# Altium footprint library LED SMD 0805.PcbLib: 2 footprints
Each footprint in its own frame and in the unit in brackets; x right, y up, seen from the top. Pads: shape width x height; smd on the part's side, far side on the other; paste and mask are expansions set on the pad; w line width, h text height; cw(c..) or ccw(c..) is an arc to the next point about the centre after c.
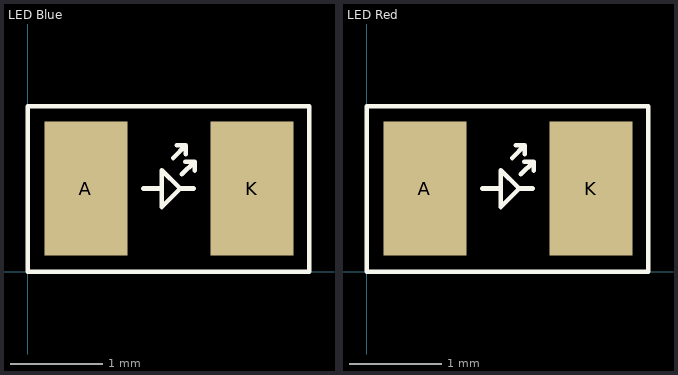
[diagram p0: the footprints below, top view; thin cyan lines are the x and y axes]

## LED Blue [mm] "Blue 470nm LED Indication - Discrete 3.3V 0805 (2012 Metric)"
pads (2):
  rect 0.9x1.45 smd: A(0.63,0.9) K(2.43,0.9)
Top Overlay:
  lines w0.05: 1.25,0.9 1.45,0.9 ; 1.576,1.231 1.713,1.368 ; 1.613,1.368 1.713,1.368 ; 1.67,1.055 1.807,1.192 ; 1.707,1.192 1.807,1.192 ; 1.713,1.272 1.713,1.368 ; 1.8,0.9 1.65,0.9 ; 1.807,1.096 1.807,1.192 ; 1.45,0.9 1.45,1.1 1.65,0.9 ; 1.45,0.9 1.45,0.7 1.65,0.9 ; 0,0 3.05,0 3.05,1.79 0,1.79 0,0
3D body "LED0805Blue.step": height 1.1, standoff 0, extent 0.441,0.271 2.461,1.521

## LED Red [mm] "Red 631nm LED Indication - Discrete 2V 0805 (2012 Metric)"
pads (2):
  rect 0.9x1.45 smd: A(0.63,0.9) K(2.43,0.9)
Top Overlay:
  lines w0.05: 1.25,0.9 1.45,0.9 ; 1.576,1.231 1.713,1.368 ; 1.613,1.368 1.713,1.368 ; 1.67,1.055 1.807,1.192 ; 1.707,1.192 1.807,1.192 ; 1.713,1.272 1.713,1.368 ; 1.8,0.9 1.65,0.9 ; 1.807,1.096 1.807,1.192 ; 1.45,0.9 1.45,1.1 1.65,0.9 ; 1.45,0.9 1.45,0.7 1.65,0.9 ; 0,0 3.05,0 3.05,1.79 0,1.79 0,0
3D body "LED0805Red.step": height 1.1, standoff 0, extent 0.495,0.279 2.515,1.529